# EAGLE library part HEADER2X7-STACKABLE (library AllAboutEE)
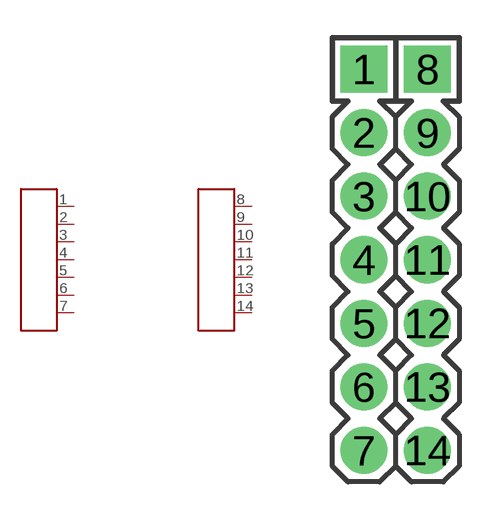
[diagram p15: symbol with the pads of HEADER2X14-STACKABLE; footprint HEADER2X14-STACKABLE]

Designator prefix -

## HEADER2X7-STACKABLE  [HEADER2X14-STACKABLE]
1  P$1
2  P$2
3  P$3
4  P$4
5  P$5
6  P$6
7  P$7
8  P$8
9  P$9
10  P$10
11  P$11
12  P$12
13  P$13
14  P$14

## Footprint HEADER2X14-STACKABLE (pad centres in mm)
drill 1.016 pad 1.88 square: 1 0,7.62; 8 2.54,7.62
drill 1.016 pad 1.88: 2 0,5.08; 3 0,2.54; 4 0,0; 5 0,-2.54; 6 0,-5.08; 7 0,-7.62; 9 2.54,5.08; 10 2.54,2.54; 11 2.54,0; 12 2.54,-2.54; 13 2.54,-5.08; 14 2.54,-7.62